# Altium schematic symbol library shield.SchLib: 15 symbols
Pins are listed as number, name and electrical type; pins without a type are passive.

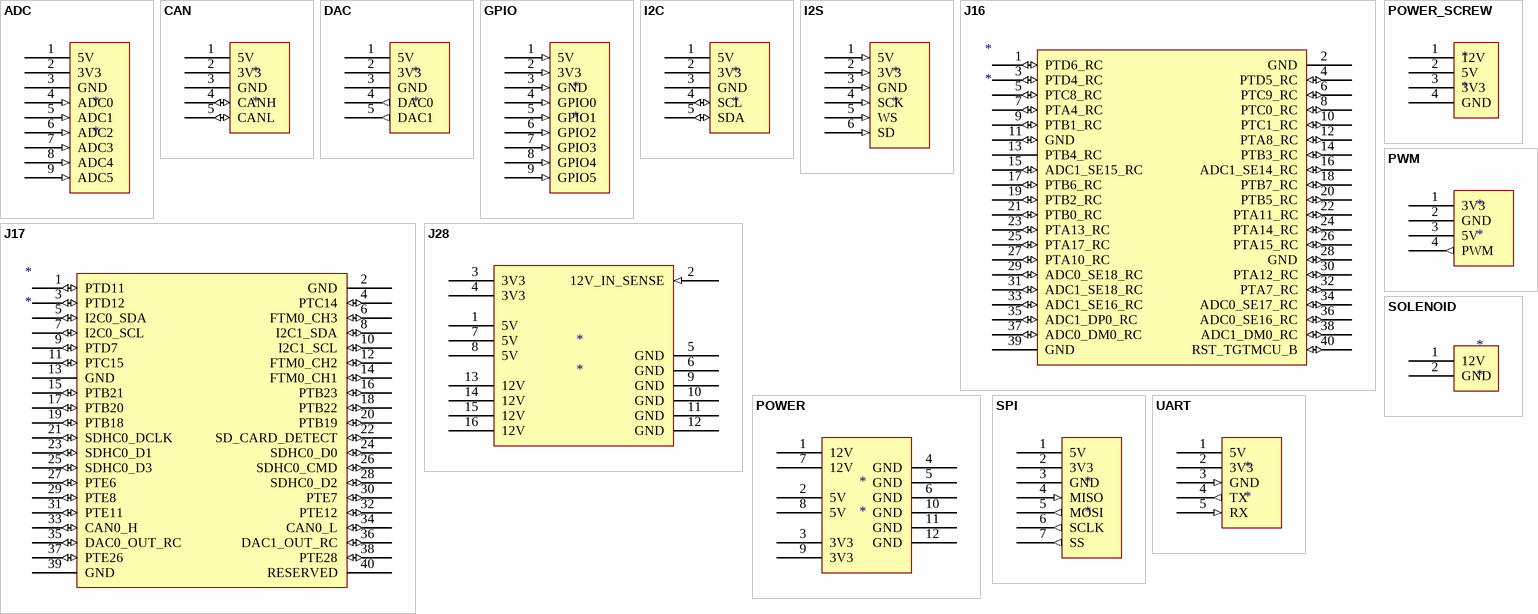
[diagram p0: symbols ADC to UART]

## ADC
designator *
pins: 1 5V (power), 2 3V3 (power), 3 GND (power), 4 ADC0 (in), 5 ADC1 (in), 6 ADC2 (in), 7 ADC3 (in), 8 ADC4 (in), 9 ADC5 (in)

## CAN
designator *
pins: 1 5V (power), 2 3V3 (power), 3 GND (power), 4 CANH (io), 5 CANL (io)

## DAC
designator *
pins: 1 5V (power), 2 3V3 (power), 3 GND (power), 4 DAC0 (out), 5 DAC1 (out)

## GPIO
designator *
pins: 1 5V (in), 2 3V3 (in), 3 GND (in), 4 GPIO0 (in), 5 GPIO1 (in), 6 GPIO2 (in), 7 GPIO3 (in), 8 GPIO4 (in), 9 GPIO5 (in)

## I2C
designator *
pins: 1 5V (power), 2 3V3 (power), 3 GND (power), 4 SCL (io), 5 SDA (io)

## I2S
designator *
pins: 1 5V (in), 2 3V3 (in), 3 GND (in), 4 SCK (in), 5 WS (in), 6 SD (in)

## J16
designator *
pins: 1 PTD6_RC (io), 2 GND (power), 3 PTD4_RC (io), 4 PTD5_RC (io), 5 PTC8_RC (io), 6 PTC9_RC (io), 7 PTA4_RC (io), 8 PTC0_RC (io), 9 PTB1_RC (io), 10 PTC1_RC (io), 11 GND (io), 12 PTA8_RC (io), 13 PTB4_RC (power), 14 PTB3_RC (io), 15 ADC1_SE15_RC (io), 16 ADC1_SE14_RC (io), 17 PTB6_RC (io), 18 PTB7_RC (io), 19 PTB2_RC (io), 20 PTB5_RC (io), 21 PTB0_RC (io), 22 PTA11_RC (io), 23 PTA13_RC (io), 24 PTA14_RC (io), 25 PTA17_RC (io), 26 PTA15_RC (io), 27 PTA10_RC (io), 28 GND (io), 29 ADC0_SE18_RC (io), 30 PTA12_RC (io), 31 ADC1_SE18_RC (io), 32 PTA7_RC (io), 33 ADC1_SE16_RC (io), 34 ADC0_SE17_RC (io), 35 ADC1_DP0_RC (io), 36 ADC0_SE16_RC (io), 37 ADC0_DM0_RC (io), 38 ADC1_DM0_RC (io), 39 GND (power), 40 RST_TGTMCU_B (io)

## J17
designator *
pins: 1 PTD11 (io), 2 GND (power), 3 PTD12 (io), 4 PTC14 (io), 5 I2C0_SDA (io), 6 FTM0_CH3 (io), 7 I2C0_SCL (io), 8 I2C1_SDA (io), 9 PTD7 (io), 10 I2C1_SCL (io), 11 PTC15 (io), 12 FTM0_CH2 (io), 13 GND (power), 14 FTM0_CH1 (io), 15 PTB21 (io), 16 PTB23 (io), 17 PTB20 (io), 18 PTB22 (io), 19 PTB18 (io), 20 PTB19 (io), 21 SDHC0_DCLK (io), 22 SD_CARD_DETECT (io), 23 SDHC0_D1 (io), 24 SDHC0_D0 (io), 25 SDHC0_D3 (io), 26 SDHC0_CMD (io), 27 PTE6 (io), 28 SDHC0_D2 (io), 29 PTE8 (io), 30 PTE7 (io), 31 PTE11 (io), 32 PTE12 (io), 33 CAN0_H (io), 34 CAN0_L (io), 35 DAC0_OUT_RC (io), 36 DAC1_OUT_RC (io), 37 PTE26 (io), 38 PTE28 (io), 39 GND (power), 40 RESERVED

## J28
designator *
pins: 1 5V (power), 2 12V_IN_SENSE (in), 3 3V3 (power), 4 3V3 (power), 5 GND (power), 6 GND (power), 7 5V (power), 8 5V (power), 9 GND (power), 10 GND (power), 11 GND (power), 12 GND (power), 13 12V (power), 14 12V (power), 15 12V (power), 16 12V (power)

## POWER
designator *
pins: 1 12V (power), 2 5V (power), 3 3V3 (power), 4 GND (power), 5 GND (power), 6 GND (power), 7 12V (power), 8 5V (power), 9 3V3 (power), 10 GND (power), 11 GND (power), 12 GND (power)

## POWER_SCREW
designator *
pins: 1 12V (power), 2 5V (power), 3 3V3 (power), 4 GND (power)

## PWM
designator *
pins: 1 3V3 (power), 2 GND (power), 3 5V (power), 4 PWM (out)

## SOLENOID
designator *
pins: 1 12V (power), 2 GND (power)

## SPI
designator *
pins: 1 5V (power), 2 3V3 (power), 3 GND (power), 4 MISO (in), 5 MOSI (out), 6 SCLK (out), 7 SS (out)

## UART
designator *
pins: 1 5V (power), 2 3V3 (power), 3 GND (in), 4 TX (out), 5 RX (in)